# Altium footprint library Oscillators.PcbLib: 2 footprints
Each footprint in its own frame and in the unit in brackets; x right, y up, seen from the top. Pads: shape width x height; smd on the part's side, far side on the other; paste and mask are expansions set on the pad; w line width, h text height; cw(c..) or ccw(c..) is an arc to the next point about the centre after c.
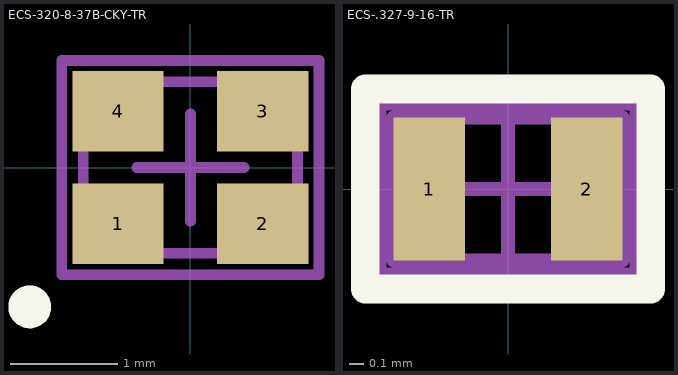
[diagram p0: the footprints below, top view; thin cyan lines are the x and y axes]

## ECS-320-8-37B-CKY-TR [mm] "32 MHz ±10ppm Crystal 8pF 50 Ohms 4-SMD, No Lead"
height 0.5
pads (4):
  rect 0.85x0.75 smd: 1(-0.675,-0.525) 2(0.675,-0.525) 3(0.675,0.525) 4(-0.675,0.525)
Top Overlay:
  circle w0.2: c-1.5,-1.3 r0.1
Top Assembly:
  circle w0.2: c-0.7,-0.5 r0.1
  lines w0.1: -1,-0.8 1,-0.8 1,0.8 -1,0.8 -1,-0.8
Top Component Center:
  lines w0.1: -0.5,0 0.5,0 ; 0,-0.5 0,0.5
Top Component Outline:
  lines w0.1: -1,-0.8 -1,0.8 1,0.8 1,-0.8 -1,-0.8
Top Courtyard:
  lines w0.1: -1.2,-1 -1.2,1 1.2,1 1.2,-1 -1.2,-1
Top Designator:
  text "''.Designator''" at 0,0 h2
Top Value:
  text "''.Comment''" at 0,0 h2
3D body "ECS-320-8-37B-CKY-TR.step": height 0.5, standoff 0, extent -1,-0.8 1,0.8

## ECS-.327-9-16-TR [mm] "32.768 kHz ±20ppm Crystal 9pF 90 kOhms 2-SMD, No Lead"
height 0.5
pads (2):
  rect 0.5x1 smd: 1(-0.55,0) 2(0.55,0)
Top Overlay:
  lines w0.2: -1,-0.7 1,-0.7 1,0.7 0.55,0.7 -1,0.7 -1,-0.7
Top Assembly:
  lines w0.1: -0.8,-0.5 -0.8,0.5 0.8,0.5 0.8,-0.5 -0.8,-0.5
Top Component Center:
  lines w0.1: -0.5,0 0.5,0 ; 0,-0.5 0,0.5
Top Component Outline:
  lines w0.1: -0.8,-0.5 0.8,-0.5 0.8,0.5 -0.8,0.5 -0.8,-0.5
Top Courtyard:
  lines w0.1: -0.9,-0.6 0.9,-0.6 0.9,0.6 -0.9,0.6 -0.9,-0.6
Top Designator:
  text "''.Designator''" at 0,0 h2
Top Value:
  text "''.Comment''" at 0,0 h2
3D body "ECS-.327-9-16-TR.step": height 0.5, standoff 0, extent -0.8,-0.5 0.8,0.5